# EAGLE library part Q_A3959 (library MRDT-2014-All)
Full Bridge Peak Current mode controll driver
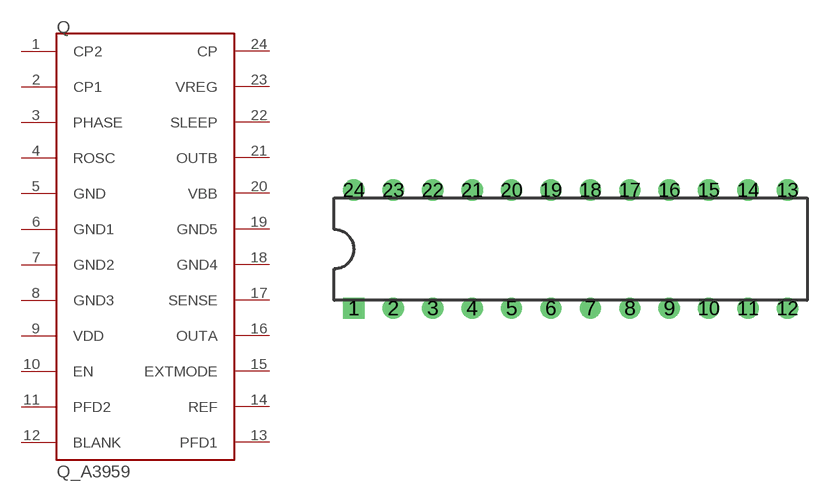
[diagram p13: symbol with the pads of DIP24; footprint DIP24]

Designator prefix Q

## Q_A3959  [DIP24]
1  CP2
2  CP1
3  PHASE
4  ROSC
5  GND
6  GND1
7  GND2
8  GND3
9  VDD
10  EN
11  PFD2
12  BLANK
13  PFD1
14  REF
15  EXTMODE
16  OUTA
17  SENSE
18  GND4
19  GND5
20  VBB
21  OUTB
22  SLEEP
23  VREG
24  CP

## Footprint DIP24 (pad centres in mm)
drill 0.864 square: 1 -16.51,-3.81
drill 0.864: 2 -13.97,-3.81; 3 -11.43,-3.81; 4 -8.89,-3.81; 5 -6.35,-3.81; 6 -3.81,-3.81; 7 -1.27,-3.81; 8 1.27,-3.81; 9 3.81,-3.81; 10 6.35,-3.81; 11 8.89,-3.81; 12 11.43,-3.81; 13 11.43,3.81; 14 8.89,3.81; 15 6.35,3.81; 16 3.81,3.81; 17 1.27,3.81; 18 -1.27,3.81; 19 -3.81,3.81; 20 -6.35,3.81; 21 -8.89,3.81; 22 -11.43,3.81; 23 -13.97,3.81; 24 -16.51,3.81